# Altium schematic symbol library SPHRD2L3DH20E7W41J.SchLib: 2 symbols
Pins are listed as number, name and electrical type; pins without a type are passive.

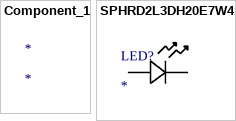
[diagram p0: symbols Component_1 to SPHRD2L3DH20E7W41J]

## Component_1
designator *

## SPHRD2L3DH20E7W41J
designator LED?
No Description Available; Mfr_Name: Samsung
footprint LED_SPHRD2L3DH20E7W41J_SAM
pins: 1, 2